# Altium footprint library ushio_rp2040.PcbLib: 30 footprints (part 2 of 2)
Each footprint in its own frame and in the unit in brackets; x right, y up, seen from the top. Pads: shape width x height; smd on the part's side, far side on the other; paste and mask are expansions set on the pad; w line width, h text height; cw(c..) or ccw(c..) is an arc to the next point about the centre after c.
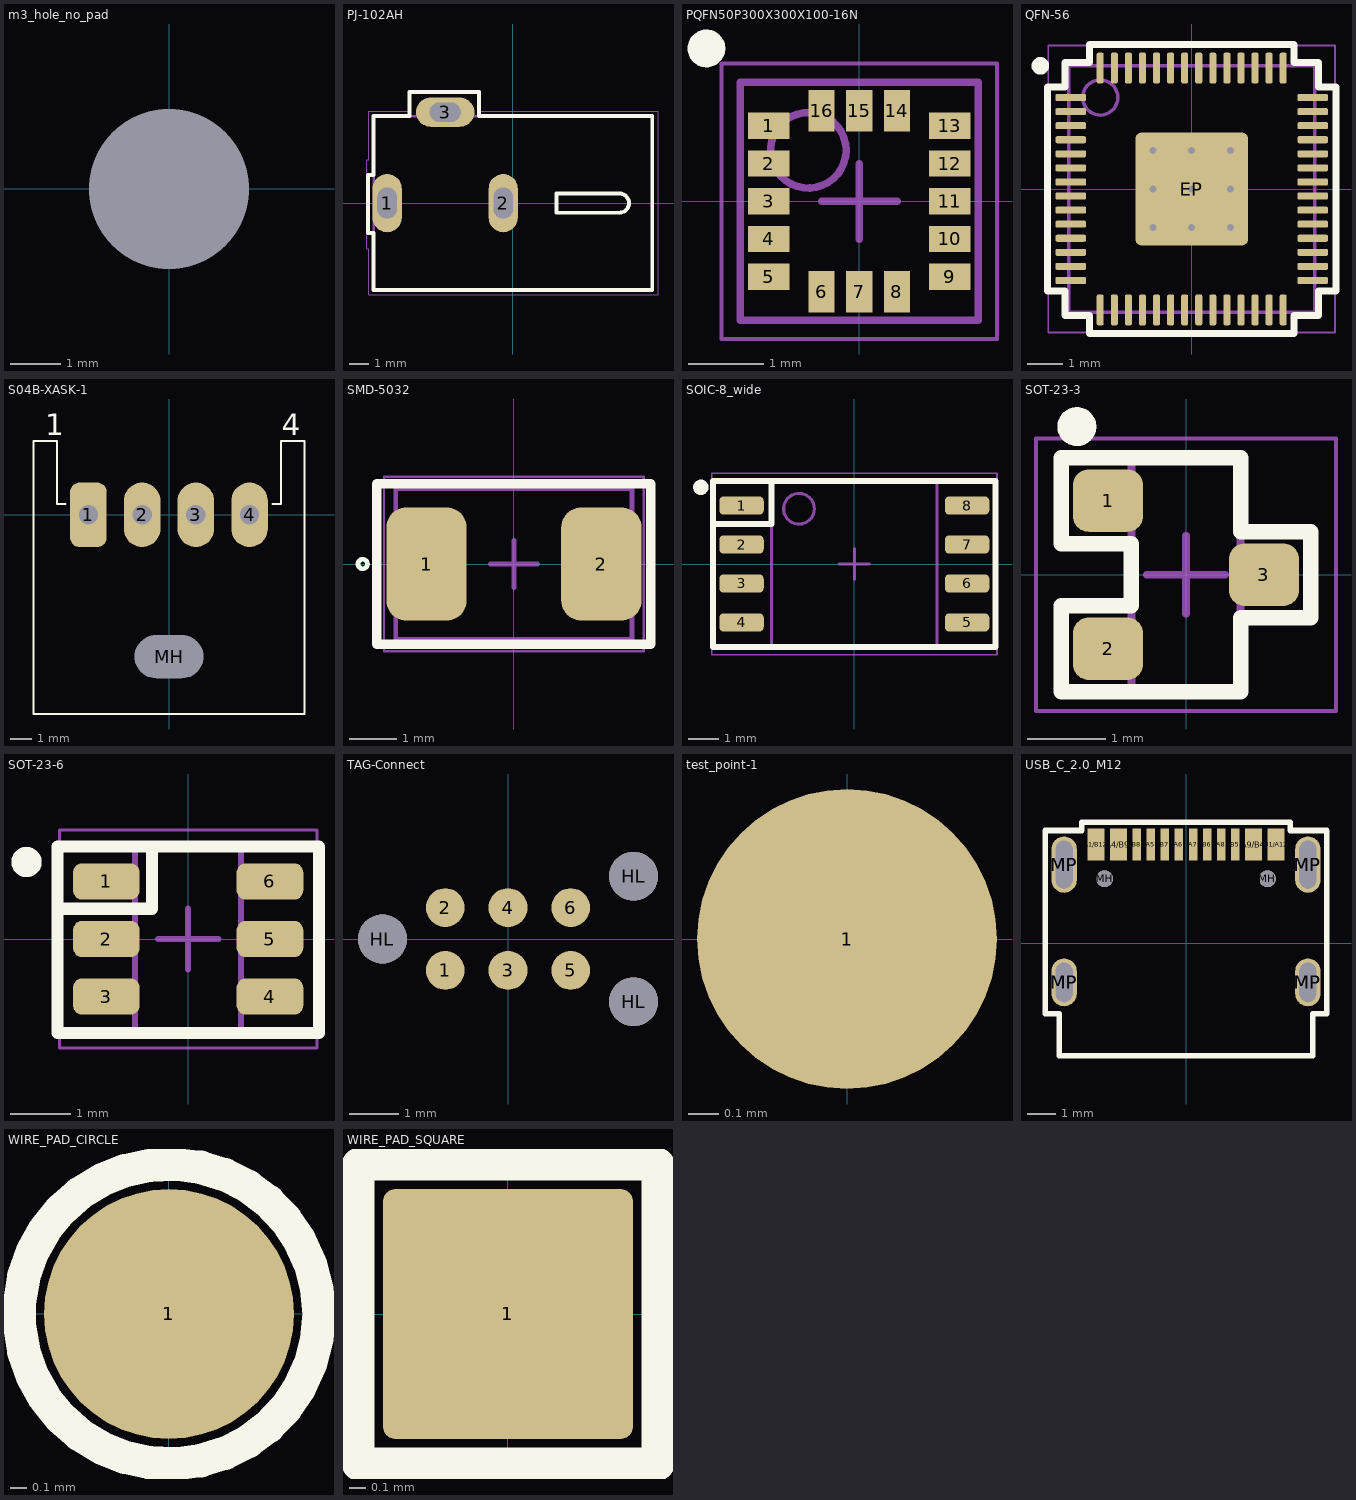
[diagram p1: the footprints below, top view; thin cyan lines are the x and y axes]

## m3_hole_no_pad [mm] "M3 hole, no pad"
pads (1):
  round 0 hole 3.2 unplated mask+1.3: ""(0,0)
Multi-Layer:
  pour cut-out: 0,-3 0.197,-3 0.586,-2.949 0.966,-2.847 1.33,-2.696 1.67,-2.5 1.982,-2.26 2.26,-1.982 2.5,-1.67 2.696,-1.33 2.847,-0.966 2.949,-0.587 3,-0.197 3,0 3,0.197 2.949,0.586 2.847,0.966 2.696,1.33 2.5,1.67 2.26,1.982 1.982,2.26 1.67,2.5 1.33,2.696 0.966,2.847 0.586,2.949 0.197,3 0,3 -0.197,3 -0.587,2.949 -0.966,2.847 -1.33,2.696 -1.67,2.5 -1.982,2.26 -2.26,1.982 -2.5,1.67 -2.696,1.33 -2.847,0.966 -2.949,0.587 -3,0.197 -3,0 -3,-0.197 -2.949,-0.587 -2.847,-0.966 -2.696,-1.33 -2.5,-1.67 -2.26,-1.982 -1.982,-2.26 -1.67,-2.5 -1.33,-2.696 -0.966,-2.847 -0.587,-2.949 -0.197,-3

## PJ-102AH [mm]
height 11
pads (3):
  oval 1.508x3.016 hole 1 slot 1.6 at 90 deg: 1(-6.5,0) 2(-0.5,0)
  oval 3.016x1.508 hole 1 slot 1.6 at 0 deg: 3(-3.5,4.7)
Top Overlay:
  lines w0.2: 5.5,0.5 cw(c5.5,0) 6,0 cw(c5.5,0) 5.5,-0.5 2.25,-0.5 2.25,0.5 5.5,0.5 ; 5.5,0.5 5.5,0.5 ; -7.5,-1.55 -7.5,1.45 -7.2,1.45 -7.2,4.5 -5.35,4.5 -5.35,5.75 -1.75,5.75 -1.75,4.5 7.2,4.5 7.2,-4.5 -7.2,-4.5 -7.2,-1.55 -7.5,-1.55
Mechanical 1:
  lines w0: -7,-0.8 -7,0.8 -6,0.8 -6,-0.8 -7,-0.8 ; -4.3,4.2 -2.7,4.2 -2.7,5.2 -4.3,5.2 -4.3,4.2 ; -1,-0.8 -1,0.8 0,0.8 0,-0.8 -1,-0.8
Mechanical 13:
  lines w0.127: -7.2,-4.5 -7.2,4.5 ; -7.2,-4.5 7.2,-4.5 ; -7.2,-4.5 -7.2,4.5 ; -7.2,-4.5 7.2,-4.5 ; -7.2,4.5 7.2,4.5 ; -7.2,4.5 7.2,4.5 ; 7.2,-4.5 7.2,4.5 ; 7.2,-4.5 7.2,4.5
Mechanical 15:
  lines w0.05: -7.55,-2.35 -7.45,-2.35 -7.45,-4.75 7.5,-4.75 7.5,4.75 -1.65,4.75 -1.65,5.8 -5.35,5.8 -5.35,4.75 -7.45,4.75 -7.45,2.25 -7.55,2.25 -7.55,-2.35
3D body "pj-102ah.sldprt": height 11, standoff -3.5, extent -7.2,-4.5 7.2,4.9

## PQFN50P300X300X100-16N [mm] "PQFN, 16-Leads, Body 3.00x3.00mm, Pitch 0.50mm, IPC Medium Density"
height 1
pads (16):
  rect 0.55x0.35 smd: 1(-1.2,1) 2(-1.2,0.5) 3(-1.2,0) 4(-1.2,-0.5) 5(-1.2,-1) 9(1.2,-1) 10(1.2,-0.5) 11(1.2,0) 12(1.2,0.5) 13(1.2,1)
  rect 0.35x0.55 smd: 6(-0.5,-1.2) 7(0,-1.2) 8(0.5,-1.2) 14(0.5,1.2) 15(0,1.2) 16(-0.5,1.2)
Top Overlay:
  circle w0.25: c-2.025,2.025 r0.125
Top Courtyard:
  lines w0.05: -1.825,-1.825 1.825,-1.825 1.825,1.825 -1.825,1.825 -1.825,-1.825
  lines w0.1: -0.5,0 0.5,0 ; 0,-0.5 0,0.5
Mechanical 13:
  circle w0.1: c-0.675,0.675 r0.5
  lines w0.1: -1.575,-1.575 1.575,-1.575 1.575,1.575 -1.575,1.575 -1.575,-1.575
3D body: height 1, standoff 0, extent -1.575,-1.575 1.575,1.575

## QFN-56 [mm]
height 0.9
pads (57):
  rrect50% 0.875x0.2 smd: 1(-3.437,2.6) 2(-3.437,2.2) 3(-3.437,1.8) 4(-3.437,1.4) 5(-3.437,1) 6(-3.437,0.6) 7(-3.437,0.2) 8(-3.437,-0.2) 9(-3.437,-0.6) 10(-3.437,-1) 11(-3.437,-1.4) 12(-3.437,-1.8) 13(-3.437,-2.2) 14(-3.437,-2.6) 29(3.438,-2.6) 30(3.438,-2.2) 31(3.438,-1.8) 32(3.438,-1.4) 33(3.438,-1) 34(3.438,-0.6) 35(3.438,-0.2) 36(3.438,0.2) 37(3.438,0.6) 38(3.438,1) 39(3.438,1.4) 40(3.438,1.8) 41(3.438,2.2) 42(3.438,2.6)
  rrect50% 0.2x0.875 smd: 15(-2.6,-3.438) 16(-2.2,-3.438) 17(-1.8,-3.438) 18(-1.4,-3.438) 19(-1,-3.438) 20(-0.6,-3.438) 21(-0.2,-3.438) 22(0.2,-3.438) 23(0.6,-3.438) 24(1,-3.438) 25(1.4,-3.438) 26(1.8,-3.438) 27(2.2,-3.438) 28(2.6,-3.438) 43(2.6,3.437) 44(2.2,3.437) 45(1.8,3.437) 46(1.4,3.437) 47(1,3.437) 48(0.6,3.437) 49(0.2,3.437) 50(-0.2,3.437) 51(-0.6,3.437) 52(-1,3.437) 53(-1.4,3.437) 54(-1.8,3.437) 55(-2.2,3.437) 56(-2.6,3.437)
  rrect10% 3.2x3.2 smd: EP(0,0)
via -1.1,1.1 diameter 0.5 hole 0.2
via 0,1.1 diameter 0.5 hole 0.2
via 1.1,1.1 diameter 0.5 hole 0.2
via -1.1,0 diameter 0.5 hole 0.2
via 0,0 diameter 0.5 hole 0.2
via 1.1,0 diameter 0.5 hole 0.2
via -1.1,-1.1 diameter 0.5 hole 0.2
via 0,-1.1 diameter 0.5 hole 0.2
via 1.1,-1.1 diameter 0.5 hole 0.2
Top Overlay:
  circle w0.25: c-4.3,3.5 r0.125
  lines w0.2: -4.1,-2.9 -4.1,2.9 -3.6,2.9 -3.6,3.6 -2.9,3.6 -2.9,4.1 2.9,4.1 2.9,3.6 3.6,3.6 3.6,2.9 4.1,2.9 4.1,-2.9 3.6,-2.9 3.6,-3.6 2.9,-3.6 2.9,-4.1 -2.9,-4.1 -2.9,-3.6 -3.6,-3.6 -3.6,-2.9 -4.1,-2.9
Top Courtyard:
  lines w0.05: -4.075,-4.075 -4.075,4.075 4.075,4.075 4.075,-4.075 -4.075,-4.075
  lines w0.1: -0.5,0 0.5,0 ; 0,-0.5 0,0.5
Mechanical 13:
  circle w0.1: c-2.6,2.6 r0.5
  lines w0.1: -3.5,-3.5 -3.5,3.5 3.5,3.5 3.5,-3.5 -3.5,-3.5
3D body "QFN-56.step": height 0.9, standoff 0, extent -3.501,-3.501 3.501,3.501

## S04B-XASK-1 [mm] "JST XA 2.5mm header, right angle"
pads (5):
  rrect50% 1.7x3 hole 0.9: 1(-3.75,0)
  oval 1.7x3 hole 0.9: 2(-1.25,0) 3(1.25,0) 4(3.75,0)
  oval 3x2 hole 2 slot 3.2 at 0 deg unplated mask+0: MH(0,-6.604)
Top Overlay:
  lines w0.1: -4.826,0.508 -5.207,0.508 -5.207,3.429 -6.3,3.429 -6.3,-9.271 6.3,-9.271 6.3,3.429 5.207,3.429 5.207,0.508 4.826,0.508
  text "1" at -5.755,3.691 h1
  text "4" at 5.255,3.691 h1
3D body "S04B-XASK-1.STEP": height 7.7, standoff -3.4, extent -6.25,-9.253 6.25,3.347

## SMD-5032 [mm]
height 1.35
pads (2):
  rrect50% 1.7x2.4 smd: 1(-1.85,0) 2(1.85,0)
Top Overlay:
  circle w0.1: c-3.2,0 r0.1
  lines w0.2: -2.9,-1.7 -2.9,1.7 2.9,1.7 2.9,-1.7 -2.9,-1.7
Top Courtyard:
  lines w0.05: -2.75,-1.85 2.75,-1.85 2.75,1.85 -2.75,1.85 -2.75,-1.85
  lines w0.1: -0.5,0 0.5,0 ; 0,-0.5 0,0.5
Mechanical 13:
  lines w0.1: -2.5,-1.6 2.5,-1.6 2.5,1.6 -2.5,1.6 -2.5,-1.6
3D body "SMD-5032.step": height 1.35, standoff 0, extent -2.5,-1.6 2.5,1.6

## SOIC-8_wide [mm]
height 2.16
pads (8):
  rrect50% 1.45x0.6 smd: 1(-3.675,1.905) 2(-3.675,0.635) 3(-3.675,-0.635) 4(-3.675,-1.905) 5(3.675,-1.905) 6(3.675,-0.635) 7(3.675,0.635) 8(3.675,1.905)
Top Overlay:
  circle w0.25: c-5,2.5 r0.125
  lines w0.2: -4.6,1.3 -2.7,1.3 -2.7,2.7 ; -4.6,-2.7 4.6,-2.7 4.6,2.7 -4.6,2.7 -4.6,-2.7
Mechanical 13:
  circle w0.1: c-1.8,1.8 r0.5
  lines w0.1: -2.7,-2.7 2.7,-2.7 2.7,2.7 -2.7,2.7 -2.7,-2.7
Mechanical 15:
  lines w0.05: -4.65,-2.95 4.65,-2.95 4.65,2.95 -4.65,2.95 -4.65,-2.95
  lines w0.1: -0.5,0 0.5,0 ; 0,-0.5 0,0.5
3D body "SOIC-8_wide.step": height 2.16, standoff 0, extent -3.95,-2.7 3.95,2.7

## SOT-23-3 [mm]
height 1.22
pads (3):
  rrect50% 0.9x0.8 smd: 1(-1,0.95) 2(-1,-0.95) 3(1,0)
Top Overlay:
  circle w0.25: c-1.4,1.9 r0.125
  lines w0.2: -1.6,-1.5 0.7,-1.5 0.7,-0.55 1.6,-0.55 1.6,0.55 0.7,0.55 0.7,1.5 -1.6,1.5 -1.6,0.4 -0.7,0.4 -0.7,-0.4 -1.6,-0.4 -1.6,-1.5
Mechanical 13:
  lines w0.1: -0.7,-1.52 0.7,-1.52 0.7,1.52 -0.7,1.52 -0.7,-1.52
Mechanical 15:
  lines w0.05: -1.925,-1.75 1.925,-1.75 1.925,1.75 -1.925,1.75 -1.925,-1.75
  lines w0.1: -0.5,0 0.5,0 ; 0,-0.5 0,0.5
3D body "SOT23-3.step": height 1.22, standoff 0, extent -1.32,-1.52 1.32,1.52

## SOT-23-6 [mm]
height 1.1
pads (6):
  rrect50% 1.1x0.6 smd: 1(-1.35,0.95) 2(-1.35,0) 3(-1.35,-0.95) 4(1.35,-0.95) 5(1.35,0) 6(1.35,0.95)
Top Overlay:
  circle w0.25: c-2.667,1.27 r0.125
  lines w0.2: -2.1,0.5 -0.6,0.5 -0.6,1.5 ; -2.159,-1.55 -2.159,1.524 2.159,1.524 2.159,-1.55 -2.159,-1.55
Mechanical 13:
  lines w0.1: -0.875,-1.525 0.875,-1.525 0.875,1.525 -0.875,1.525 -0.875,-1.525
Mechanical 15:
  lines w0.05: -2.125,-1.8 2.125,-1.8 2.125,1.8 -2.125,1.8 -2.125,-1.8
  lines w0.1: -0.5,0 0.5,0 ; 0,-0.5 0,0.5
3D body "SOT-23-6.step": height 1.1, standoff 0, extent -1.525,-1.525 1.525,1.525

## TAG-Connect [mm] "Debug header"
pads (9):
  round 0.787 smd paste-1: 1(-1.27,-0.635) 2(-1.27,0.635) 3(0,-0.635) 4(0,0.635) 5(1.27,-0.635) 6(1.27,0.635)
  round 0.991 hole 0.991 unplated mask+0: HL(-2.54,0) HL(2.54,-1.27) HL(2.54,1.27)

## test_point-1 [mm] "Test point"
pads (1):
  round 1 smd paste-1 mask+0: 1(0,0)

## USB_C_2.0_M12 [mm] "HRO M12/GCT 4105 USB-C 2.0 CONNECTOR"
height 3.26
pads (22):
  rect 0.6x1.14 smd: A1/B12(-3.2,3.5) A4/B9(-2.4,3.5) A9/B4(2.4,3.5) B1/A12(3.2,3.5)
  rect 0.3x1.14 smd: A5(-1.25,3.5) A6(-0.25,3.5) A7(0.25,3.5) A8(1.25,3.5) B5(1.75,3.5) B6(0.75,3.5) B7(-0.75,3.5) B8(-1.75,3.5)
  round 0.6 hole 0.6 unplated: MH(-2.89,2.29) MH(2.89,2.29)
  oval 0.9x1.7 hole 0.6 slot 1.4 at 90 deg: MP(-4.325,-1.39) MP(4.325,-1.39)
  oval 0.9x1.7 on Top Paste: MP(-4.325,-1.39) MP(4.325,-1.39)
  oval 0.9x2 hole 0.6 slot 1.7 at 90 deg: MP(-4.325,2.79) MP(4.325,2.79)
  oval 0.9x2 on Top Paste: MP(-4.325,2.79) MP(4.325,2.79)
Top Overlay:
  lines w0.2: -5,-2.5 -5,4 -3.7,4 -3.7,4.3 3.7,4.3 3.7,4 5,4 5,-2.5 4.5,-2.5 4.5,-4 -4.5,-4 -4.5,-2.5 -5,-2.5
3D body "HRO TYPE-C-31-M-12.step": height 3.21, standoff -1, extent -4.475,-3.95 4.465,3.95

## WIRE_PAD_CIRCLE [mm]
pads (1):
  round 1.5 smd paste-2: 1(0,0)
Top Overlay:
  circle w0.2: c0,0 r0.9
3D body: height 0.1, standoff 0, extent -0.75,-0.749 0.744,0.749

## WIRE_PAD_SQUARE [mm]
pads (1):
  rrect10% 1.5x1.5 smd paste-2: 1(0,0)
Top Overlay:
  lines w0.2: -0.9,-0.9 -0.9,0.9 0.9,0.9 0.9,-0.9 -0.9,-0.9
3D body: height 0.1, standoff 0, extent -0.75,-0.75 0.75,0.75